# Altium footprint library Miscellaneous 1Connectors.PcbLib: 182 footprints (part 2 of 12)
Each footprint in its own frame and in the unit in brackets; x right, y up, seen from the top. Pads: shape width x height; smd on the part's side, far side on the other; paste and mask are expansions set on the pad; w line width, h text height; cw(c..) or ccw(c..) is an arc to the next point about the centre after c.
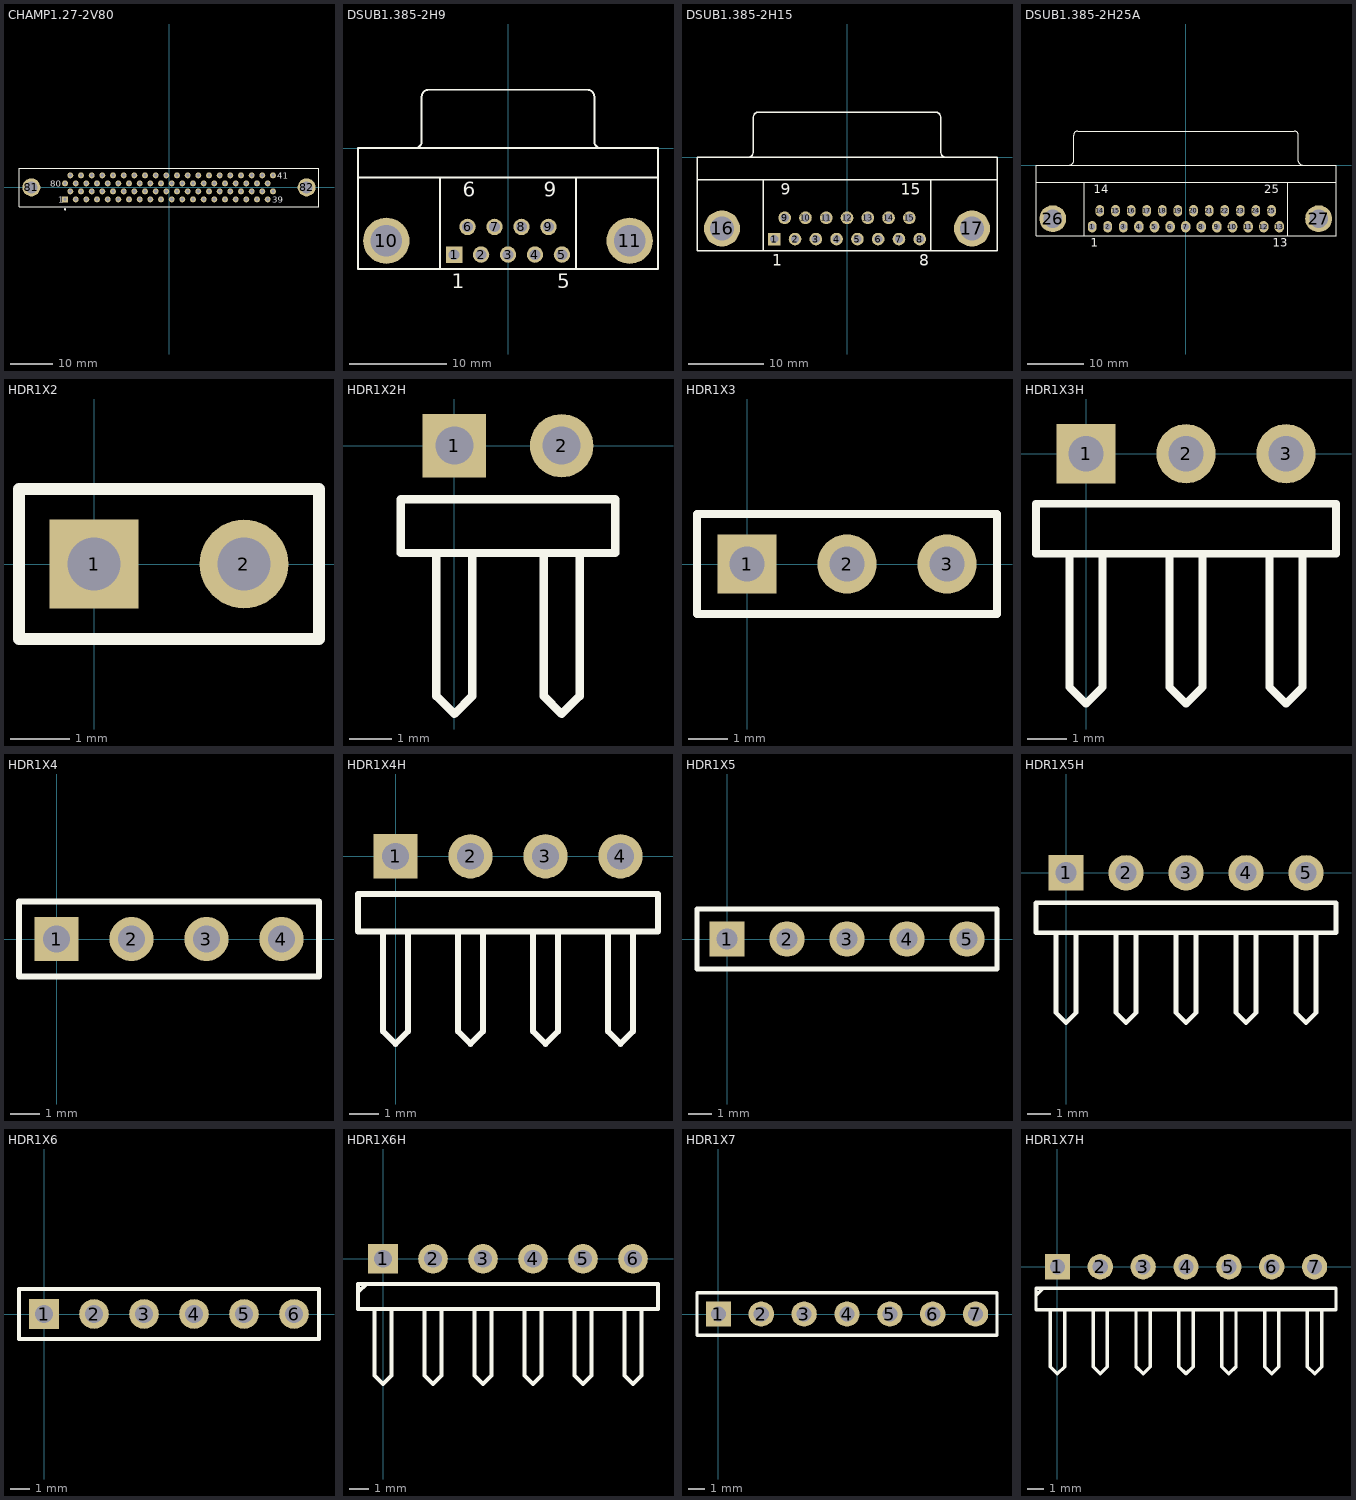
[diagram p1: the footprints below, top view; thin cyan lines are the x and y axes]

## CHAMP1.27-2V80 [mm] "Connector; 80 Position; Vertical; Pitch 1.27 mm"
height 11.1
pads (82):
  rect 1.4x1.4 hole 0.8: 1(-24.765,-2.857)
  round 1.4 hole 0.8: 2(-23.495,-0.953) 3(-22.225,-2.857) 4(-20.955,-0.953) 5(-19.685,-2.857) 6(-18.415,-0.953) 7(-17.145,-2.857) 8(-15.875,-0.953) 9(-14.605,-2.857) 10(-13.335,-0.953) 11(-12.065,-2.857) 12(-10.795,-0.953) 13(-9.525,-2.857) 14(-8.255,-0.953) 15(-6.985,-2.857) 16(-5.715,-0.953) 17(-4.445,-2.857) 18(-3.175,-0.953) 19(-1.905,-2.857) 20(-0.635,-0.953) 21(0.635,-2.857) 22(1.905,-0.953) 23(3.175,-2.857) 24(4.445,-0.953) 25(5.715,-2.857) 26(6.985,-0.953) 27(8.255,-2.857) 28(9.525,-0.953) 29(10.795,-2.857) 30(12.065,-0.953) 31(13.335,-2.857) 32(14.605,-0.953) 33(15.875,-2.857) 34(17.145,-0.953) 35(18.415,-2.857) 36(19.685,-0.953) 37(20.955,-2.857) 38(22.225,-0.953) 39(23.495,-2.857) 40(24.765,-0.953) 41(24.765,2.857) 42(23.495,0.953) 43(22.225,2.857) 44(20.955,0.953) 45(19.685,2.857) 46(18.415,0.953) 47(17.145,2.857) 48(15.875,0.953) 49(14.605,2.857) 50(13.335,0.953) 51(12.065,2.857) 52(10.795,0.953) 53(9.525,2.857) 54(8.255,0.953) 55(6.985,2.857) 56(5.715,0.953) 57(4.445,2.857) 58(3.175,0.953) 59(1.905,2.857) 60(0.635,0.953) 61(-0.635,2.857) 62(-1.905,0.953) 63(-3.175,2.857) 64(-4.445,0.953) 65(-5.715,2.857) 66(-6.985,0.953) 67(-8.255,2.857) 68(-9.525,0.953) 69(-10.795,2.857) 70(-12.065,0.953) 71(-13.335,2.857) 72(-14.605,0.953) 73(-15.875,2.857) 74(-17.145,0.953) 75(-18.415,2.857) 76(-19.685,0.953) 77(-20.955,2.857) 78(-22.225,0.953) 79(-23.495,2.857) 80(-24.765,0.953)
  round 4.3 hole 2.8: 81(-32.775,0) 82(32.775,0)
Top Overlay:
  circle w0.25: c-24.765,-5.25 r0.125
  lines w0.2: -35.725,-4.6 35.725,-4.6 35.725,4.6 -35.725,4.6 -35.725,-4.6
  text "41" at 25.84,2.107 h1.5
  text "80" at -28.34,0.202 h1.5
  text "39" at 24.57,-3.608 h1.5
  text "1" at -26.34,-3.608 h1.5

## DSUB1.385-2H9 [mm] "Connector; D Subminiature; 9 Position; Right Angle; Pitch 1.385 mm"
height 12.75
pads (11):
  rect 1.69x1.69 hole 1.09: 1(-5.54,-10.92)
  round 1.69 hole 1.09: 2(-2.77,-10.92) 3(0,-10.92) 4(2.77,-10.92) 5(5.54,-10.92) 6(-4.155,-8.08) 7(-1.385,-8.08) 8(1.385,-8.08) 9(4.155,-8.08)
  round 4.76 hole 3.26: 10(-12.495,-9.5) 11(12.495,-9.5)
Top Overlay:
  lines w0.2: -15.4,-3 15.4,-3 ; -9.56,0.005 ccw(c-9.56,0.7) -8.865,0.7 -8.865,5.3 ; -8.86,5.305 cw(c-8.165,5.305) -8.165,6 8.165,6 cw(c8.165,5.305) 8.86,5.305 ; -7,-12.4 -7,-3 ; 7,-12.4 7,-3 ; 8.865,5.3 8.865,0.7 ccw(c9.56,0.7) 9.56,0.005 ; -15.4,-12.4 15.4,-12.4 15.4,0 -15.4,0 -15.4,-12.4
  text "6" at -4.655,-4.975 h1.5
  text "9" at 3.655,-4.975 h1.5
  text "5" at 5.04,-14.375 h1.5
  text "1" at -5.79,-14.375 h1.5

## DSUB1.385-2H15 [mm] "Connector; D Subminiature; 15 Position; Right Angle; Pitch 1.385 mm"
height 12.75
pads (17):
  rect 1.69x1.69 hole 1.09: 1(-9.695,-10.92)
  round 1.69 hole 1.09: 2(-6.925,-10.92) 3(-4.155,-10.92) 4(-1.385,-10.92) 5(1.385,-10.92) 6(4.155,-10.92) 7(6.925,-10.92) 8(9.695,-10.92) 9(-8.31,-8.08) 10(-5.54,-8.08) 11(-2.77,-8.08) 12(0,-8.08) 13(2.77,-8.08) 14(5.54,-8.08) 15(8.31,-8.08)
  round 4.8 hole 3.18: 16(-16.66,-9.5) 17(16.66,-9.5)
Top Overlay:
  lines w0.2: -20,-3 20,-3 ; -13.195,0.005 ccw(c-13.195,0.7) -12.5,0.7 -12.5,5.3 ; -12.495,5.305 cw(c-11.8,5.305) -11.8,6 11.8,6 cw(c11.8,5.305) 12.495,5.305 ; -11.14,-12.5 -11.14,-3 ; 11.14,-12.5 11.14,-3 ; 12.5,5.3 12.5,0.7 ccw(c13.195,0.7) 13.195,0.005 ; -20,-12.5 20,-12.5 20,0 -20,0 -20,-12.5
  text "9" at -8.81,-4.975 h1.5
  text "15" at 7.185,-4.975 h1.5
  text "8" at 9.652,-14.475 h1.5
  text "1" at -9.945,-14.475 h1.5

## DSUB1.385-2H25A [mm] "Connector; D Subminiature; 25 Position; Right Angle; Pitch 1.385 mm"
height 12.93
pads (27):
  oval 1.524x2.032 hole 1.09: 1(-16.566,-10.92) 2(-13.805,-10.92) 3(-11.044,-10.92) 14(-15.185,-8.08) 15(-12.424,-8.08) 16(-9.663,-8.08) 17(-6.902,-8.08) 18(-4.141,-8.08) 19(-1.38,-8.08) 20(1.381,-8.08) 21(4.142,-8.08) 22(6.903,-8.08) 23(9.664,-8.08) 24(12.425,-8.08) 25(15.186,-8.08)
  oval 1.69x2.032 hole 1.09: 4(-8.283,-10.92) 5(-5.522,-10.92) 6(-2.761,-10.92) 7(0,-10.92) 8(2.761,-10.92) 9(5.522,-10.92) 10(8.283,-10.92) 11(11.044,-10.92) 12(13.805,-10.92) 13(16.566,-10.92)
  round 4.76 hole 3.26: 26(-23.526,-9.5) 27(23.526,-9.5)
Top Overlay:
  lines w0.2: -26.496,-3 26.604,-3 ; -20.541,0.005 ccw(c-20.541,0.7) -19.846,0.7 -19.846,5.3 ; -19.841,5.305 cw(c-19.146,5.305) -19.146,6 19.254,6 cw(c19.254,5.305) 19.949,5.305 ; -17.946,-12.5 -17.946,-3 ; 18.054,-12.5 18.054,-3 ; 19.954,5.3 19.954,0.7 ccw(c20.649,0.7) 20.649,0.005 ; -26.496,-12.5 26.604,-12.5 26.604,0 -26.496,0 -26.496,-12.5
  text "1" at -16.816,-14.475 h1.5
  text "13" at 15.441,-14.475 h1.5
  text "14" at -16.31,-4.975 h1.5
  text "25" at 13.936,-4.975 h1.5

## HDR1X2 [mm] "Connector; Header; 2 Position"
pads (2):
  rect 1.5x1.5 hole 0.9: 1(0,0)
  round 1.5 hole 0.9: 2(2.54,0)
Top Overlay:
  lines w0.2: -1.27,-1.27 3.81,-1.27 3.81,1.27 -1.27,1.27 -1.27,-1.27

## HDR1X2H [mm] "Connector; Header; 2 Position; Right Angle"
pads (2):
  rect 1.5x1.5 hole 0.9: 1(0,0)
  round 1.5 hole 0.9: 2(2.54,0)
Top Overlay:
  lines w0.2: -0.423,-2.54 -0.423,-5.927 0,-6.35 0.423,-5.927 0.423,-2.54 ; 2.117,-2.54 2.117,-5.927 2.54,-6.35 2.963,-5.927 2.963,-2.54 ; -1.27,-2.54 -1.27,-1.27 3.81,-1.27 3.81,-2.54 -1.27,-2.54

## HDR1X3 [mm] "Connector; Header; 3 Position"
pads (3):
  rect 1.5x1.5 hole 0.9: 1(0,0)
  round 1.5 hole 0.9: 2(2.54,0) 3(5.08,0)
Top Overlay:
  lines w0.2: -1.27,-1.27 6.35,-1.27 6.35,1.27 -1.27,1.27 -1.27,-1.27

## HDR1X3H [mm] "Connector; Header; 3 Position; Right Angle"
pads (3):
  rect 1.5x1.5 hole 0.9: 1(0,0)
  round 1.5 hole 0.9: 2(2.54,0) 3(5.08,0)
Top Overlay:
  lines w0.2: -0.423,-2.54 -0.423,-5.927 0,-6.35 0.423,-5.927 0.423,-2.54 ; 2.117,-2.54 2.117,-5.927 2.54,-6.35 2.963,-5.927 2.963,-2.54 ; 4.657,-2.54 4.657,-5.927 5.08,-6.35 5.503,-5.927 5.503,-2.54 ; -1.27,-2.54 6.35,-2.54 6.35,-1.27 -1.27,-1.27 -1.27,-2.54

## HDR1X4 [mm] "Connector; Header; 4 Position"
pads (4):
  rect 1.5x1.5 hole 0.9: 1(0,0)
  round 1.5 hole 0.9: 2(2.54,0) 3(5.08,0) 4(7.62,0)
Top Overlay:
  lines w0.2: -1.27,-1.27 -1.27,1.27 8.89,1.27 8.89,-1.27 -1.27,-1.27

## HDR1X4H [mm] "Connector; Header; 4 Position; Right Angle"
pads (4):
  rect 1.5x1.5 hole 0.9: 1(0,0)
  round 1.5 hole 0.9: 2(2.54,0) 3(5.08,0) 4(7.62,0)
Top Overlay:
  lines w0.2: -0.423,-2.54 -0.423,-5.927 0,-6.35 0.423,-5.927 0.423,-2.54 ; 2.117,-2.54 2.117,-5.927 2.54,-6.35 2.963,-5.927 2.963,-2.54 ; 4.657,-2.54 4.657,-5.927 5.08,-6.35 5.503,-5.927 5.503,-2.54 ; 7.197,-2.54 7.197,-5.927 7.62,-6.35 8.043,-5.927 8.043,-2.54 ; -1.27,-2.54 -1.27,-1.27 8.89,-1.27 8.89,-2.54 -1.27,-2.54

## HDR1X5 [mm] "Connector; Header; 5 Position"
pads (5):
  rect 1.5x1.5 hole 0.9: 1(0,0)
  round 1.5 hole 0.9: 2(2.54,0) 3(5.08,0) 4(7.62,0) 5(10.16,0)
Top Overlay:
  lines w0.2: -1.27,-1.27 -1.27,1.27 11.43,1.27 11.43,-1.27 -1.27,-1.27

## HDR1X5H [mm] "Connector; Header; 5 Position; Right Angle"
pads (5):
  rect 1.5x1.5 hole 0.9: 1(0,0)
  round 1.5 hole 0.9: 2(2.54,0) 3(5.08,0) 4(7.62,0) 5(10.16,0)
Top Overlay:
  lines w0.2: -0.423,-2.54 -0.423,-5.927 0,-6.35 0.423,-5.927 0.423,-2.54 ; 2.117,-2.54 2.117,-5.927 2.54,-6.35 2.963,-5.927 2.963,-2.54 ; 4.657,-2.54 4.657,-5.927 5.08,-6.35 5.503,-5.927 5.503,-2.54 ; 7.197,-2.54 7.197,-5.927 7.62,-6.35 8.043,-5.927 8.043,-2.54 ; 9.737,-2.54 9.737,-5.927 10.16,-6.35 10.583,-5.927 10.583,-2.54 ; -1.27,-2.54 -1.27,-1.27 11.43,-1.27 11.43,-2.54 -1.27,-2.54

## HDR1X6 [mm] "Connector; Header; 6 Position"
pads (6):
  rect 1.5x1.5 hole 0.9: 1(0,0)
  round 1.5 hole 0.9: 2(2.54,0) 3(5.08,0) 4(7.62,0) 5(10.16,0) 6(12.7,0)
Top Overlay:
  lines w0.2: -1.27,-1.27 -1.27,1.27 13.97,1.27 13.97,-1.27 -1.27,-1.27

## HDR1X6H [mm] "Connector; Header; 6 Position; Right Angle"
pads (6):
  rect 1.5x1.5 hole 0.9: 1(0,0)
  round 1.5 hole 0.9: 2(2.54,0) 3(5.08,0) 4(7.62,0) 5(10.16,0) 6(12.7,0)
Top Overlay:
  lines w0.2: -1.27,-1.693 -0.847,-1.27 ; -0.423,-2.54 -0.423,-5.927 0,-6.35 0.423,-5.927 0.423,-2.54 ; 2.117,-2.54 2.117,-5.927 2.54,-6.35 2.963,-5.927 2.963,-2.54 ; 4.657,-2.54 4.657,-5.927 5.08,-6.35 5.503,-5.927 5.503,-2.54 ; 7.197,-2.54 7.197,-5.927 7.62,-6.35 8.043,-5.927 8.043,-2.54 ; 9.737,-2.54 9.737,-5.927 10.16,-6.35 10.583,-5.927 10.583,-2.54 ; 12.277,-2.54 12.277,-5.927 12.7,-6.35 13.123,-5.927 13.123,-2.54 ; -1.27,-2.54 13.97,-2.54 13.97,-1.27 -1.27,-1.27 -1.27,-2.54

## HDR1X7 [mm] "Connector; Header; 7 Position"
pads (7):
  rect 1.5x1.5 hole 0.9: 1(0,0)
  round 1.5 hole 0.9: 2(2.54,0) 3(5.08,0) 4(7.62,0) 5(10.16,0) 6(12.7,0) 7(15.24,0)
Top Overlay:
  lines w0.2: -1.27,-1.27 -1.27,1.27 16.51,1.27 16.51,-1.27 -1.27,-1.27

## HDR1X7H [mm] "Connector; Header; 7 Position; Right Angle"
pads (7):
  rect 1.5x1.5 hole 0.9: 1(0,0)
  round 1.5 hole 0.9: 2(2.54,0) 3(5.08,0) 4(7.62,0) 5(10.16,0) 6(12.7,0) 7(15.24,0)
Top Overlay:
  lines w0.2: -1.27,-1.693 -0.847,-1.27 ; -0.423,-2.54 -0.423,-5.927 0,-6.35 0.423,-5.927 0.423,-2.54 ; 2.117,-2.54 2.117,-5.927 2.54,-6.35 2.963,-5.927 2.963,-2.54 ; 4.657,-2.54 4.657,-5.927 5.08,-6.35 5.503,-5.927 5.503,-2.54 ; 7.197,-2.54 7.197,-5.927 7.62,-6.35 8.043,-5.927 8.043,-2.54 ; 9.737,-2.54 9.737,-5.927 10.16,-6.35 10.583,-5.927 10.583,-2.54 ; 12.277,-2.54 12.277,-5.927 12.7,-6.35 13.123,-5.927 13.123,-2.54 ; 14.817,-2.54 14.817,-5.927 15.24,-6.35 15.663,-5.927 15.663,-2.54 ; -1.27,-2.54 16.51,-2.54 16.51,-1.27 -1.27,-1.27 -1.27,-2.54